# Altium footprint library XS library.PcbLib: 379 footprints (part 19 of 24)
Each footprint in its own frame and in the unit in brackets; x right, y up, seen from the top. Pads: shape width x height; smd on the part's side, far side on the other; paste and mask are expansions set on the pad; w line width, h text height; cw(c..) or ccw(c..) is an arc to the next point about the centre after c.
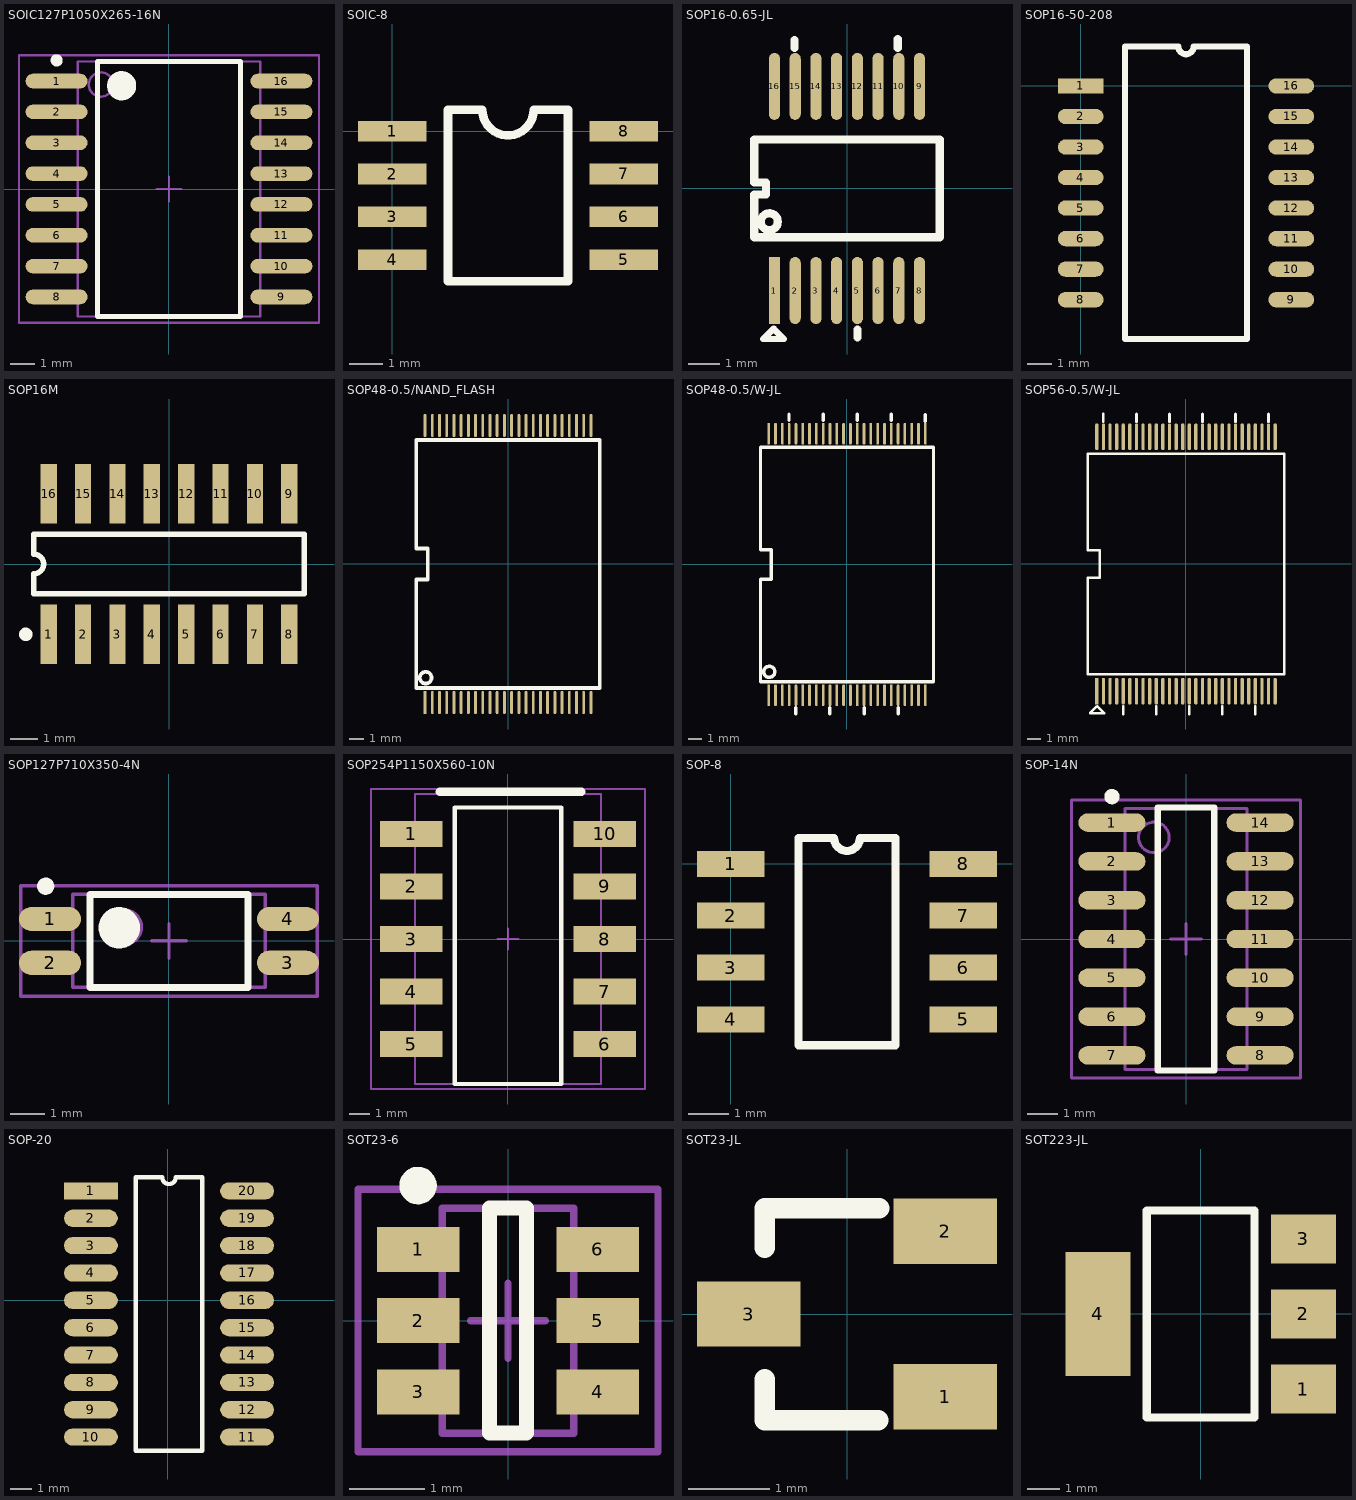
[diagram p18: the footprints below, top view; thin cyan lines are the x and y axes]

## SOIC127P1050X265-16N [mm] "SOIC SMB460"
height 2.65
pads (16):
  oval 2.55x0.6 smd: 1(-4.625,4.445) 2(-4.625,3.175) 3(-4.625,1.905) 4(-4.625,0.635) 5(-4.625,-0.635) 6(-4.625,-1.905) 7(-4.625,-3.175) 8(-4.625,-4.445) 9(4.625,-4.445) 10(4.625,-3.175) 11(4.625,-1.905) 12(4.625,-0.635) 13(4.625,0.635) 14(4.625,1.905) 15(4.625,3.175) 16(4.625,4.445)
Top Overlay:
  circle w0.6: c-1.95,4.25 r0.3
  circle w0.25: c-4.625,5.295 r0.125
  lines w0.2: -2.95,-5.25 2.95,-5.25 2.95,5.25 -2.95,5.25 -2.95,-5.25
Mechanical 13:
  circle w0.1: c-2.8,4.3 r0.5
  lines w0.1: -3.75,-5.25 3.75,-5.25 3.75,5.25 -3.75,5.25 -3.75,-5.25
Mechanical 15:
  lines w0.1: -0.5,0 0.5,0 ; 0,-0.5 0,0.5 ; -6.175,-5.5 6.175,-5.5 6.175,5.5 -6.175,5.5 -6.175,-5.5
3D body: height 2.65, standoff 0.1, extent -3.75,-5.25 3.75,5.25

## SOIC-8 [mil]
pads (8):
  rect 80x24 smd: 1(0,0) 2(0,-50.06) 3(0,-100.06) 4(0,-150.06) 5(270,-150) 6(270,-100) 7(270,-50) 8(270,0)
Top Overlay:
  lines w10: 75,24.94 75.06,25 105,25 ccw(c135,25) 165,25 204.94,25 205,24.94 205,-175.06 65,-175.06 65,24.94 95,24.94

## SOP16-0.65-JL [mm]
pads (16):
  rect 0.35x2.1 smd: 1(-2.275,-3.2)
  oval 0.35x2.1 smd: 2(-1.625,-3.2) 3(-0.975,-3.2) 4(-0.325,-3.2) 5(0.325,-3.2) 6(0.975,-3.2) 7(1.625,-3.2) 8(2.275,-3.2) 9(2.275,3.2) 10(1.625,3.2) 11(0.975,3.2) 12(0.325,3.2) 13(-0.325,3.2) 14(-0.975,3.2) 15(-1.625,3.2) 16(-2.275,3.2)
Top Overlay:
  circle w0.254: c-2.435,-1.043 r0.265
  lines w0.2: -2.63,-4.72 -1.98,-4.72 -2.305,-4.395 -2.3,-4.395 -2.3,-4.39 -2.63,-4.72
  lines w0.254: -1.641,4.406 -1.641,4.654 ; 0.326,-4.674 0.326,-4.426 ; 1.593,4.41 1.593,4.687 ; -2.91,-1.53 2.91,-1.53 2.91,1.53 -2.91,1.53 -2.91,0.191 -2.546,0.191 -2.546,-0.191 -2.91,-0.191 -2.91,-1.53

## SOP16-50-208 [mil]
height 196.85
pads (16):
  rect 75x25 smd: 1(0,0)
  oval 75x25 smd: 2(0,-50) 3(0,-100) 4(0,-150) 5(0,-200) 6(0,-250) 7(0,-300) 8(0,-350) 9(345,-350) 10(345,-300) 11(345,-250) 12(345,-200) 13(345,-150) 14(345,-100) 15(345,-50) 16(345,0)
Top Overlay:
  lines w10: 72.5,-414.37 72.5,64.37 160,64.37 ccw(c172.5,64.37) 185,64.37 272.5,64.37 272.5,-414.37 72.5,-414.37

## SOP16M [mm]
pads (16):
  rect 0.6x2.2 smd: 1(-4.445,-2.6) 2(-3.175,-2.6) 3(-1.905,-2.6) 4(-0.635,-2.6) 5(0.635,-2.6) 6(1.905,-2.6) 7(3.175,-2.6) 8(4.445,-2.6) 9(4.445,2.6) 10(3.175,2.6) 11(1.905,2.6) 12(0.635,2.6) 13(-0.635,2.6) 14(-1.905,2.6) 15(-3.175,2.6) 16(-4.445,2.6)
Top Overlay:
  circle w0.25: c-5.295,-2.6 r0.125
  lines w0.2: -5,-1.1 5,-1.1 5,1.1 -5,1.1 -5,0.367 cw(c-5,0) -5,-0.367 -5,-1.1

## SOP48-0.5/NAND_FLASH [mm]
pads (48):
  rect 0.2x1.6 smd: 1(-5.75,-9.6)
  oval 0.2x1.6 smd: 2(-5.25,-9.6) 3(-4.75,-9.6) 4(-4.25,-9.6) 5(-3.75,-9.6) 6(-3.25,-9.6) 7(-2.75,-9.6) 8(-2.25,-9.6) 9(-1.75,-9.6) 10(-1.25,-9.6) 11(-0.75,-9.6) 12(-0.25,-9.6) 13(0.25,-9.6) 14(0.75,-9.6) 15(1.25,-9.6) 16(1.75,-9.6) 17(2.25,-9.6) 18(2.75,-9.6) 19(3.25,-9.6) 20(3.75,-9.6) 21(4.25,-9.6) 22(4.75,-9.6) 23(5.25,-9.6) 24(5.75,-9.6) 25(5.75,9.6) 26(5.25,9.6) 27(4.75,9.6) 28(4.25,9.6) 29(3.75,9.6) 30(3.25,9.6) 31(2.75,9.6) 32(2.25,9.6) 33(1.75,9.6) 34(1.25,9.6) 35(0.75,9.6) 36(0.25,9.6) 37(-0.25,9.6) 38(-0.75,9.6) 39(-1.25,9.6) 40(-1.75,9.6) 41(-2.25,9.6) 42(-2.75,9.6) 43(-3.25,9.6) 44(-3.75,9.6) 45(-4.25,9.6) 46(-4.75,9.6) 47(-5.25,9.6) 48(-5.75,9.6)
Top Overlay:
  circle w0.254: c-5.708,-7.883 r0.407
  lines w0.254: -6.35,-8.6 6.35,-8.6 6.35,8.6 -6.35,8.6 -6.35,1.075 -5.556,1.075 -5.556,-1.075 -6.35,-1.075 -6.35,-8.6
Drill Drawing:
  lines w0.254: -6.4,-9.2 -6.15,-9.2 ; -6.4,9.2 -6.15,9.2 ; 6.1,-9.2 6.4,-9.2 ; 6.1,9.2 6.35,9.2

## SOP48-0.5/W-JL [mm]
pads (48):
  rect 0.2x1.6 smd: 1(-5.75,-9.6)
  oval 0.2x1.6 smd: 2(-5.25,-9.6) 3(-4.75,-9.6) 4(-4.25,-9.6) 5(-3.75,-9.6) 6(-3.25,-9.6) 7(-2.75,-9.6) 8(-2.25,-9.6) 9(-1.75,-9.6) 10(-1.25,-9.6) 11(-0.75,-9.6) 12(-0.25,-9.6) 13(0.25,-9.6) 14(0.75,-9.6) 15(1.25,-9.6) 16(1.75,-9.6) 17(2.25,-9.6) 18(2.75,-9.6) 19(3.25,-9.6) 20(3.75,-9.6) 21(4.25,-9.6) 22(4.75,-9.6) 23(5.25,-9.6) 24(5.75,-9.6) 25(5.75,9.6) 26(5.25,9.6) 27(4.75,9.6) 28(4.25,9.6) 29(3.75,9.6) 30(3.25,9.6) 31(2.75,9.6) 32(2.25,9.6) 33(1.75,9.6) 34(1.25,9.6) 35(0.75,9.6) 36(0.25,9.6) 37(-0.25,9.6) 38(-0.75,9.6) 39(-1.25,9.6) 40(-1.75,9.6) 41(-2.25,9.6) 42(-2.75,9.6) 43(-3.25,9.6) 44(-3.75,9.6) 45(-4.25,9.6) 46(-4.75,9.6) 47(-5.25,9.6) 48(-5.75,9.6)
Top Overlay:
  circle w0.254: c-5.708,-7.883 r0.407
  lines w0.254: -4.257,10.57 -4.257,11.026 ; -3.752,-10.98 -3.752,-10.523 ; -1.757,10.57 -1.757,11.026 ; -1.252,-10.98 -1.252,-10.523 ; 0.743,10.57 0.743,11.026 ; 0.747,10.59 0.747,11.046 ; 1.248,-10.98 1.248,-10.523 ; 1.252,-10.96 1.252,-10.503 ; 3.247,10.59 3.247,11.046 ; 3.752,-10.96 3.752,-10.503 ; 5.742,10.526 5.742,10.982 ; -6.35,-8.6 -6.35,-1.075 -5.556,-1.075 -5.556,1.075 -6.35,1.075 -6.35,8.6 6.35,8.6 6.35,-8.6 -6.35,-8.6

## SOP56-0.5/W-JL [mil]
pads (56):
  rect 10x80 smd: 1(-265.75,-379)
  oval 10x80 smd: 2(-246.06,-379) 3(-226.38,-379) 4(-206.69,-379) 5(-187.01,-379) 6(-167.32,-379) 7(-147.64,-379) 8(-127.95,-379) 9(-108.27,-379) 10(-88.58,-379) 11(-68.9,-379) 12(-49.21,-379) 13(-29.53,-379) 14(-9.84,-379) 15(9.84,-379) 16(29.53,-379) 17(49.21,-379) 18(68.9,-379) 19(88.58,-379) 20(108.27,-379) 21(127.95,-379) 22(147.64,-379) 23(167.32,-379) 24(187.01,-379) 25(206.69,-379) 26(226.38,-379) 27(246.06,-379) 28(265.75,-379) 29(265.75,379) 30(246.06,379) 31(226.38,379) 32(206.69,379) 33(187.01,379) 34(167.32,379) 35(147.64,379) 36(127.95,379) 37(108.27,379) 38(88.58,379) 39(68.9,379) 40(49.21,379) 41(29.53,379) 42(9.84,379) 43(-9.84,379) 44(-29.53,379) 45(-49.21,379) 46(-68.9,379) 47(-88.58,379) 48(-108.27,379) 49(-127.95,379) 50(-147.64,379) 51(-167.32,379) 52(-187.01,379) 53(-206.69,379) 54(-226.38,379) 55(-246.06,379) 56(-265.75,379)
Top Overlay:
  lines w7.87: -266,-425 -285.5,-444.5 -244,-444.5 -264.25,-424.25 ; -246.13,424 -246.13,447 ; -187,-447 -187,-424 ; -147.7,424 -147.7,447 ; -88.58,-447 -88.58,-424 ; -49.28,424 -49.28,447 ; 9.85,-447 9.85,-424 ; 49.15,424 49.15,447 ; 108.28,-447 108.28,-424 ; 147.57,424 147.57,447 ; 206.7,-447 206.7,-424 ; 246,424 246,447 ; -293.31,-329 -293.31,-41.12 -256.64,-41.12 -256.64,41.13 -293.31,41.13 -293.31,329 293.31,329 293.31,-329 -293.31,-329

## SOP127P710X350-4N [mm] "SOP, 4-Leads, Body 2.7x4.5mm (max), Pitch 1.27mm, IPC Medium Density"
height 3.5
pads (4):
  oval 1.8x0.7 smd: 1(-3.448,0.635) 2(-3.448,-0.635) 3(3.448,-0.635) 4(3.448,0.635)
Top Overlay:
  circle w0.25: c-3.575,1.585 r0.125
  circle w0.6: c-1.443,0.381 r0.3
  lines w0.2: -2.286,-1.35 -2.286,1.35 2.286,1.35 2.286,-1.35 -2.286,-1.35
Mechanical 13:
  circle w0.1: c-1.3,0.4 r0.5
  lines w0.1: -2.794,-1.35 -2.794,1.35 2.794,1.35 2.794,-1.35 -2.794,-1.35
Mechanical 15:
  lines w0.1: -0.5,0 0.5,0 ; 0,-0.5 0,0.5 ; -4.3,-1.6 -4.3,1.6 4.3,1.6 4.3,-1.6 -4.3,-1.6
3D body: height 3.5, standoff 0.25, extent -2.758,-1.35 2.794,1.35

## SOP254P1150X560-10N [mm] "双继电器"
height 5.6
pads (10):
  rect 3x1.25 smd: 1(-4.675,5.08) 2(-4.675,2.54) 3(-4.675,0) 4(-4.675,-2.54) 5(-4.675,-5.08) 6(4.675,-5.08) 7(4.675,-2.54) 8(4.675,0) 9(4.675,2.54) 10(4.675,5.08)
Top Overlay:
  lines w0.2: -2.575,-7 2.575,-7 2.575,6.35 -2.575,6.35 -2.575,-7
  lines w0.4: -3.302,7.112 3.556,7.112
Mechanical 13:
  lines w0.1: -4.5,-7 4.5,-7 4.5,7 -4.5,7 -4.5,-7
Mechanical 15:
  lines w0.1: -0.5,0 0.5,0 ; 0,-0.5 0,0.5 ; -6.625,-7.25 6.625,-7.25 6.625,7.25 -6.625,7.25 -6.625,-7.25
3D body: height 5.6, standoff 0.25, extent -4.5,-7 4.5,7

## SOP-8 [mil]
pads (8):
  rect 65x25 smd: 1(0,0) 2(0,-50) 3(0,-100) 4(0,-150) 5(224.41,-150) 6(224.41,-100) 7(224.41,-50) 8(224.41,0)
Top Overlay:
  lines w7.87: 65.37,-175 65.37,25 99.7,25 ccw(c112.2,25) 124.7,25 159.04,25 159.04,-175 65.37,-175

## SOP-14N [mm] "SOP, 14-Leads,"
height 1.75
pads (14):
  oval 2.2x0.6 smd: 1(-2.425,3.81) 2(-2.425,2.54) 3(-2.425,1.27) 4(-2.425,0) 5(-2.425,-1.27) 6(-2.425,-2.54) 7(-2.425,-3.81) 8(2.425,-3.81) 9(2.425,-2.54) 10(2.425,-1.27) 11(2.425,0) 12(2.425,1.27) 13(2.425,2.54) 14(2.425,3.81)
Top Overlay:
  circle w0.25: c-2.425,4.66 r0.125
  lines w0.2: -0.925,-4.3 0.925,-4.3 0.925,4.3 -0.925,4.3 -0.925,-4.3
Mechanical 13:
  circle w0.1: c-1.05,3.325 r0.5
  lines w0.1: -2,-4.275 2,-4.275 2,4.275 -2,4.275 -2,-4.275
Mechanical 15:
  lines w0.1: -0.5,0 0.5,0 ; 0,-0.5 0,0.5 ; -3.75,-4.55 3.75,-4.55 3.75,4.55 -3.75,4.55 -3.75,-4.55
3D body: height 1.75, standoff 0.2, extent -2,-4.275 2,4.275

## SOP-20 [mm] "74ls244"
height 2.032
pads (20):
  rect 2.5x0.8 smd: 1(-3.556,5.08)
  oval 2.5x0.8 smd: 2(-3.556,3.81) 3(-3.556,2.54) 4(-3.556,1.27) 5(-3.556,0) 6(-3.556,-1.27) 7(-3.556,-2.54) 8(-3.556,-3.81) 9(-3.556,-5.08) 10(-3.556,-6.35) 11(3.694,-6.35) 12(3.694,-5.08) 13(3.694,-3.81) 14(3.694,-2.54) 15(3.694,-1.27) 16(3.694,0) 17(3.694,1.27) 18(3.694,2.54) 19(3.694,3.81) 20(3.694,5.08)
Top Overlay:
  lines w0.2: -1.471,-6.985 -1.471,5.715 -0.249,5.715 ccw(c0.069,5.715) 0.386,5.715 1.609,5.715 1.609,-6.985 -1.471,-6.985

## SOT23-6 [mm] "Max4173"
height 1.45
pads (6):
  rect 1.1x0.6 smd: 1(-1.2,0.95) 2(-1.2,0) 3(-1.2,-0.95) 4(1.2,-0.95) 5(1.2,0) 6(1.2,0.95)
Top Overlay:
  circle w0.25: c-1.2,1.8 r0.125
  lines w0.2: -0.25,-1.5 -0.25,1.5 0.25,1.5 0.25,-1.5 -0.25,-1.5
Mechanical 13:
  lines w0.1: -0.875,-1.5 0.875,-1.5 0.875,1.5 -0.875,1.5 -0.875,-1.5
Mechanical 15:
  lines w0.1: -0.5,0 0.5,0 ; 0,-0.5 0,0.5 ; -2,-1.75 2,-1.75 2,1.75 -2,1.75 -2,-1.75
3D body: height 1.45, standoff 0, extent -0.875,-1.5 0.875,1.5

## SOT23-JL [mm]
pads (3):
  rect 1.27x0.8 smd: 1(1.205,-1.015) 2(1.205,1.015) 3(-1.205,0)
Top Overlay:
  lines w0.254: -1.009,-0.803 -1.009,-1.303 0.383,-1.303 ; -1.009,0.811 -1.009,1.297 0.392,1.297

## SOT223-JL [mm]
pads (4):
  rect 2x1.5 smd: 1(3.15,-2.3) 2(3.15,0) 3(3.15,2.3)
  rect 2x3.8 smd: 4(-3.15,0)
Top Overlay:
  lines w0.254: -1.651,-3.175 1.651,-3.175 1.651,3.175 -1.651,3.175 -1.651,-3.175